# EAGLE library part AP7361C (library rallyESP_lib)
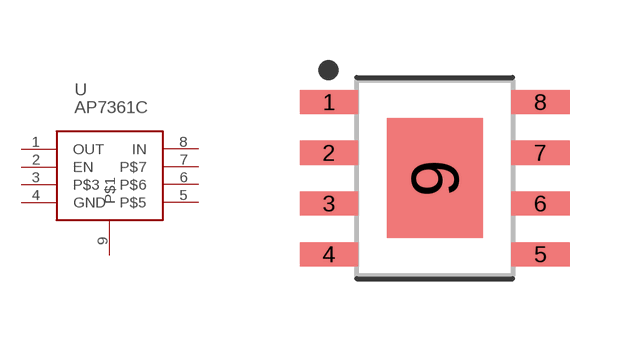
[diagram p2: symbol with the pads of SOIC127P595X150-9T240X300N; footprint SOIC127P595X150-9T240X300N]

Designator prefix -

## AP7361CSO-8EP  [SOIC127P595X150-9T240X300N]
1  OUT
2  EN
3  P$3
4  GND
5  P$5
6  P$6
7  P$7
8  IN
9  P$1

## Footprint SOIC127P595X150-9T240X300N (pad centres in mm)
8-SOIC, 1.27 mm pitch, 5.95 mm span, 4.85 X 3.85 X 1.50 mm body, 3.00 X 2.40 mm thermal pad 8-pin SOIC package with 1.27 mm pitch, 5.95 mm span with body size 4.85 X 3.85 X 1.50 mm and thermal pad size 3.00 X 2.40 mm
smd 1.46 x 0.602: 1 -2.645,1.905; 2 -2.645,0.635; 3 -2.645,-0.635; 4 -2.645,-1.905; 5 2.645,-1.905; 6 2.645,-0.635; 7 2.645,0.635; 8 2.645,1.905
smd 2.4 x 3: 9 0,0